# Altium schematic symbol library EmbedSys_Library.SchLib: 91 symbols (part 2 of 3)
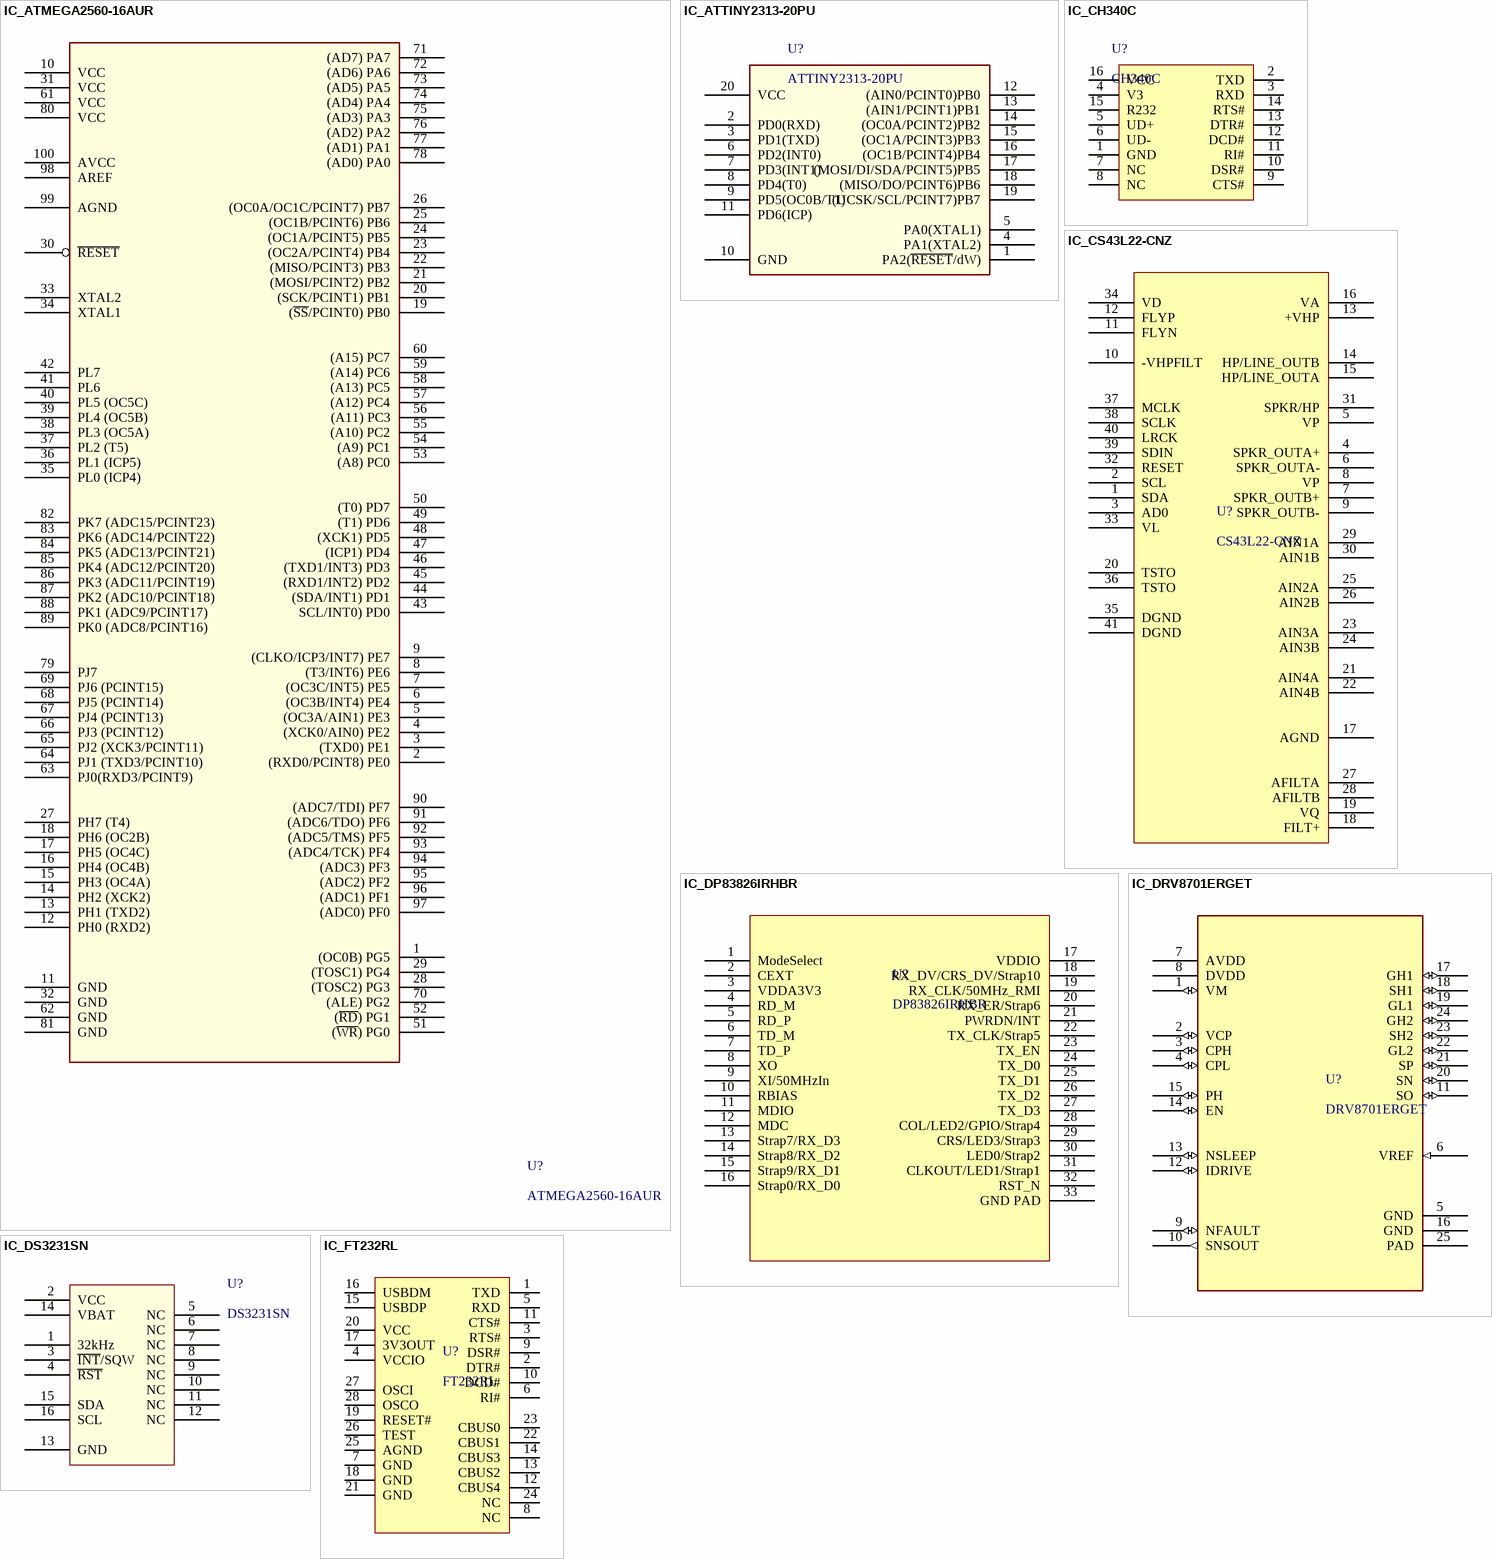
[diagram p6: symbols IC_ATMEGA2560-16AUR to IC_FT232RL]

## IC_CH340C
designator U?, comment CH340C
USB Bridge, USB to UART USB 2.0 UART Interface; Manufacturer: Olimex; Alternate Part Number-1: NA; Manufacturer Part Number: CH340C; Case/Package: SOIC16; Supplier-1: LCSC; Supplier Part Number-1: C84681
footprint SOIC16_50_284_25X90_SMT
pins: 1 GND, 2 TXD, 3 RXD, 4 V3, 5 UD+, 6 UD-, 7 NC, 8 NC, 9 CTS#, 10 DSR#, 11 RI#, 12 DCD#, 13 DTR#, 14 RTS#, 15 R232, 16 VCC

## IC_CS43L22-CNZ
designator U?, comment CS43L22-CNZ
Audio D/A Converter ICs Low Power Stereo DAC w/ClassD Spkr Driver; Manufacturer: Cirrus Logic; Number of DAC Channels: 1; Resolution: 24b; Conversion Rate: 96KS/s; Output Type: Voltage; Max Supply Voltage: 2.63V; Min Supply Voltage: 1.65V; Interface: I2C,Serial; Sampling Rate: 96000S/s; Polarity: Bipolar; Supply Type: Analog,Digital; Operating Supply Voltage: 2.5V; Number of Bits: 24; Manufacturer Part Number: CS43L22-CNZ; RoHS: Yes; Category: Digital to Analog Converters (DACs); Pricing 1: 1=5.98000, 10=5.37400, 25=5.08000, 100=4.40270, 250=4.17692, 500=3.74794, 1000=3.19500 (USD); Mount: Surface Mount; Case/Package: QFN; Number of Pins: 40; Contact Plating: Tin,Matte; Min Operating Temperature: -40°C; Max Operating Temperature: 85°C; Package Quantity: 50; Packaging: Tray; Number of Converters: 1; Output Polarity: Bipolar; Series: -; Number of Channels: 1; Length: 6mm; Width: 6mm; Height: 0.95mm; RoHS Compliant: Yes; ComponentLink1URL: https://datasheet.ciiva.com/1494/91818-1494314.pdf?src-supplier=Element14; ComponentLink1Description: https://datasheet.ciiva.com/1494/91818-1494314.pdf?src-supplier=Element14; ComponentLink2URL: https://datasheet.ciiva.com/26802/cs43l22-cnz-26802243.pdf?src-supplier=IIIC; ComponentLink2Description: https://datasheet.ciiva.com/26802/cs43l22-cnz-26802243.pdf?src-supplier=IIIC; ComponentLink3URL: https://datasheet.ciiva.com/6665/cs43l22-f2-6665692.pdf?src-supplier=Digi-Key; ComponentLink3Description: https://datasheet.ciiva.com/6665/cs43l22-f2-6665692.pdf?src-supplier=Digi-Key; ComponentLink4URL: https://datasheet.ciiva.com/3040/cs43l22-f2-3040429.pdf?src-supplier=Avnet; ComponentLink4Description: https://datasheet.ciiva.com/3040/cs43l22-f2-3040429.pdf?src-supplier=Avnet; ComponentLink5URL: https://datasheet.ciiva.com/16606/cs43l22-f2-16606863.pdf?src-supplier=Avnet+Europe; ComponentLink5Description: https://datasheet.ciiva.com/16606/cs43l22-f2-16606863.pdf?src-supplier=Avnet+Europe; Supplier 1: Digi-Key; Supplier Part Number 1: 598-1650-ND
footprint QFN40_19_284_33X9_SMD
pins: 1 SDA, 2 SCL, 3 AD0, 4 SPKR_OUTA+, 5 VP, 6 SPKR_OUTA-, 7 SPKR_OUTB+, 8 VP, 9 SPKR_OUTB-, 10 -VHPFILT, 11 FLYN, 12 FLYP, 13 +VHP, 14 HP/LINE_OUTB, 15 HP/LINE_OUTA, 16 VA, 17 AGND, 18 FILT+, 19 VQ, 20 TSTO, 21 AIN4A, 22 AIN4B, 23 AIN3A, 24 AIN3B, 25 AIN2A, 26 AIN2B, 27 AFILTA, 28 AFILTB, 29 AIN1A, 30 AIN1B, 31 SPKR/HP, 32 RESET, 33 VL, 34 VD, 35 DGND, 36 TSTO, 37 MCLK, 38 SCLK, 39 SDIN, 40 LRCK, 41 DGND

## IC_DP83826IRHBR
designator U?, comment DP83826IRHBR
Ethernet MAC Controller IEEE 802.3, 10/100 Base-T/TX PHY MII, RMII Interface 32-VQFN (5x5); Manufacturer: Texas Instruments; Supplier 1: Digi-Key; Manufacturer Part Number: DP83826IRHBR; RoHS: Yes; Pricing 1: 1=2.14000, 10=1.91900, 25=1.81000, 100=1.54210, 250=1.44796, 500=1.26696, 1000=1.14061 (USD); Supplier Part Number 1: 296-DP83826IRHBRCT-ND
footprint VQFN32_19_218_23X9_SMD
pins: 1 ModeSelect, 2 CEXT, 3 VDDA3V3, 4 RD_M, 5 RD_P, 6 TD_M, 7 TD_P, 8 XO, 9 XI/50MHzIn, 10 RBIAS, 11 MDIO, 12 MDC, 13 Strap7/RX_D3, 14 Strap8/RX_D2, 15 Strap9/RX_D1, 16 Strap0/RX_D0, 17 VDDIO, 18 RX_DV/CRS_DV/Strap10, 19 RX_CLK/50MHz_RMI, 20 RX_ER/Strap6, 21 PWRDN/INT, 22 TX_CLK/Strap5, 23 TX_EN, 24 TX_D0, 25 TX_D1, 26 TX_D2, 27 TX_D3, 28 COL/LED2/GPIO/Strap4, 29 CRS/LED3/Strap3, 30 LED0/Strap2, 31 CLKOUT/LED1/Strap1, 32 RST_N, 33 GND PAD

## IC_DRV8701ERGET
designator U?, comment DRV8701ERGET
IC MOTOR DRIVER 0V-5.5V 24VQFN; Manufacturer: Texas Instruments; Supplier 1: Digi-Key; Manufacturer Part Number: DRV8701ERGET; Category: Integrated Circuits (ICs); Pricing 1: 1=2.52000, 10=2.26100, 25=2.13320, 100=1.81750 (USD); Mount: Surface Mount; Case/Package: VQFN; ComponentLink1URL: http://www.ti.com/general/docs/lit/getliterature.tsp?genericPartNumber=DRV8701&&fileType=pdf&src-supplier=Avnet; ComponentLink1Description: http://www.ti.com/general/docs/lit/getliterature.tsp?genericPartNumber=DRV8701&&fileType=pdf&src-supplier=Avnet; ComponentLink2URL: http://www.ti.com/lit/ds/symlink/drv8701.pdf?src-supplier=Digi-Key; ComponentLink2Description: http://www.ti.com/lit/ds/symlink/drv8701.pdf?src-supplier=Digi-Key
footprint QFN50P400X400X100-25N
pins: 1 VM (io), 2 VCP (io), 3 CPH (io), 4 CPL (io), 5 GND (power), 6 VREF (in), 7 AVDD (power), 8 DVDD (power), 9 NFAULT (io), 10 SNSOUT (out), 11 SO (io), 12 IDRIVE (io), 13 NSLEEP (io), 14 EN (io), 15 PH (io), 16 GND (power), 17 GH1 (io), 18 SH1 (io), 19 GL1 (io), 20 SN (io), 21 SP (io), 22 GL2 (io), 23 SH2 (io), 24 GH2 (io), 25 PAD (power)

## IC_DS3231SN
designator U?, comment DS3231SN
MAXIM INTEGRATED PRODUCTS - DS3231SN#T&R - IC, RTC, Datum-/Zeitformat (Tag/Datum/Monat/Jahr, hh:mm:ss), I2C, 2.3V-5.5V Versorgung, SOIC-16; Max Supply Voltage: 5.5V; Min Supply Voltage: 2.3V; Interface: I2C,Serial,2-Wire; Logic Function: Clock; Date Format: YY-MM-DD-dd; Operating Supply Voltage: 3.3V; Supplier 1: Digi-Key; Manufacturer: Maxim; Manufacturer Part Number: DS3231SN#T&R; RoHS: Yes; Category: Real Time Clocks; Stock 1: 4168; Pricing 1: 1=8.82000, 10=7.96700, 25=7.59600, 100=6.59560, 250=6.29920, 500=5.74336 (USD); Mount: Surface Mount; Case/Package: SOIC; Number of Pins: 16; Contact Plating: Tin,Matte; Min Operating Temperature: -40°C; Max Operating Temperature: 85°C; Packaging: Tape and Reel; Package Quantity: 1000; Time Format: HH:MM:SS; Series: -; Radiation Hardening: No; Lead Free: Lead Free; RoHS Compliant: Yes; ComponentLink1URL: https://datasheet.ciiva.com/17307/ds3231-17307128.pdf?src-supplier=Avnet+Europe; ComponentLink1Description: https://datasheet.ciiva.com/17307/ds3231-17307128.pdf?src-supplier=Avnet+Europe; ComponentLink2URL: https://datasheet.ciiva.com/12291/ds3231-102175-12291260.pdf?src-supplier=Mouser; ComponentLink2Description: https://datasheet.ciiva.com/12291/ds3231-102175-12291260.pdf?src-supplier=Mouser; ComponentLink3URL: https://datasheet.ciiva.com/14244/ds3231-14244637.pdf?src-supplier=Avnet; ComponentLink3Description: https://datasheet.ciiva.com/14244/ds3231-14244637.pdf?src-supplier=Avnet; ComponentLink4URL: https://datasheet.ciiva.com/14244/ds3231-14244733.pdf?src-supplier=Avnet; ComponentLink4Description: https://datasheet.ciiva.com/14244/ds3231-14244733.pdf?src-supplier=Avnet; Supplier Part Number 1: DS3231SN#T&RCT-ND
footprint 16 SO
pins: 1 32kHz, 2 VCC, 3 ~{INT}/SQW, 4 ~{RST}, 5 NC, 6 NC, 7 NC, 8 NC, 9 NC, 10 NC, 11 NC, 12 NC, 13 GND, 14 VBAT, 15 SDA, 16 SCL

## IC_FT232RL
designator U?, comment FT232RL
FTDI - FT232RL-REEL - Interface Bridges, USB to UART, 1.8 V, 5.25 V, SSOP, 28 Pins, -40 °C; Supplier 1: Digi-Key; Manufacturer: FTDI; Manufacturer Part Number: FT232RL-REEL; Category: Interface ICs; Stock 1: 19371; Pricing 1: 1=4.60000, 10=4.15000, 50=3.95000, 100=3.75000, 250=3.35000, 500=2.95002, 1000=2.75001 (USD); Mount: Surface Mount; Case/Package: SSOP; ComponentLink1URL: https://datasheet.ciiva.com/34304/2161019-34304054.pdf?src-supplier=Jameco; ComponentLink1Description: https://datasheet.ciiva.com/34304/2161019-34304054.pdf?src-supplier=Jameco; ComponentLink2URL: https://datasheet.ciiva.com/4787/ds-ft232r-11534-4787658.pdf?src-supplier=Mouser; ComponentLink2Description: https://datasheet.ciiva.com/4787/ds-ft232r-11534-4787658.pdf?src-supplier=Mouser; ComponentLink3URL: https://datasheet.ciiva.com/26841/ft232rl-reel-26841080.pdf?src-supplier=IIIC; ComponentLink3Description: https://datasheet.ciiva.com/26841/ft232rl-reel-26841080.pdf?src-supplier=IIIC; ComponentLink4URL: https://datasheet.ciiva.com/1787/ds-ft232r-1787047.pdf?src-supplier=Digi-Key; ComponentLink4Description: https://datasheet.ciiva.com/1787/ds-ft232r-1787047.pdf?src-supplier=Digi-Key; ComponentLink5URL: https://datasheet.ciiva.com/1787/ds-ft232r-1787048.pdf?src-supplier=Digi-Key; ComponentLink5Description: https://datasheet.ciiva.com/1787/ds-ft232r-1787048.pdf?src-supplier=Digi-Key; ComponentLink6URL: https://datasheet.ciiva.com/1787/ds-ft232r-1787049.pdf?src-supplier=Digi-Key; ComponentLink6Description: https://datasheet.ciiva.com/1787/ds-ft232r-1787049.pdf?src-supplier=Digi-Key; ComponentLink7URL: https://datasheet.ciiva.com/15150/getdatasheetpartid-643207-15150506.pdf?src-supplier=Verical; ComponentLink7Description: https://datasheet.ciiva.com/15150/getdatasheetpartid-643207-15150506.pdf?src-supplier=Verical; ComponentLink8URL: https://datasheet.ciiva.com/16200/ds-ft232r-16200652.pdf?src-supplier=Future+Electronics; ComponentLink8Description: https://datasheet.ciiva.com/16200/ds-ft232r-16200652.pdf?src-supplier=Future+Electronics; Supplier Part Number 1: 768-1007-1-ND
footprint TSSOP28_25.5_295_15X58_SMD (Footprint not found)
pins: 1 TXD, 2 DTR#, 3 RTS#, 4 VCCIO, 5 RXD, 6 RI#, 7 GND, 8 NC, 9 DSR#, 10 DCD#, 11 CTS#, 12 CBUS4, 13 CBUS2, 14 CBUS3, 15 USBDP, 16 USBDM, 17 3V3OUT, 18 GND, 19 RESET#, 20 VCC, 21 GND, 22 CBUS1, 23 CBUS0, 24 NC, 25 AGND, 26 TEST, 27 OSCI, 28 OSCO

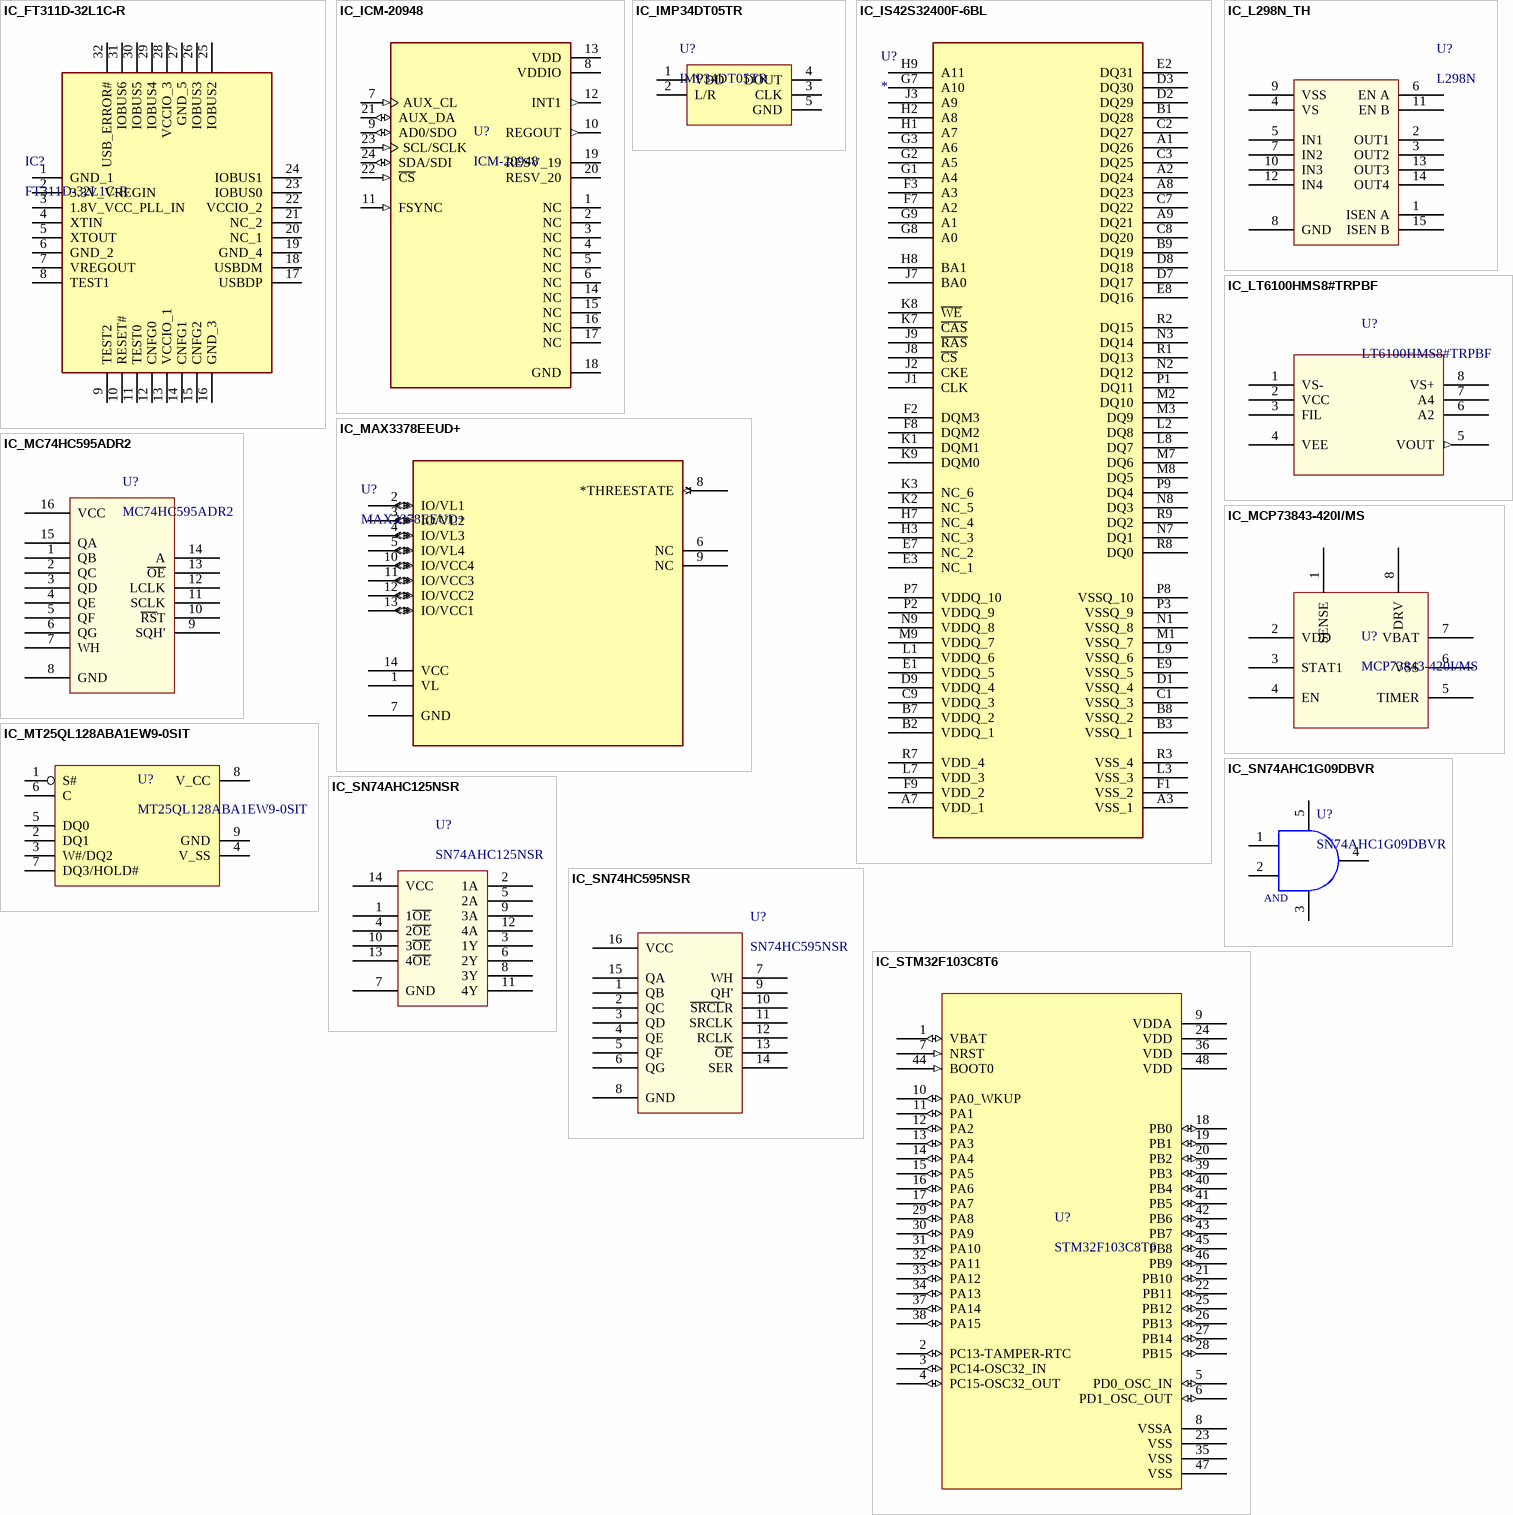
[diagram p3: symbols IC_FT311D-32L1C-R to IC_STM32F103C8T6]

## IC_FT311D-32L1C-R
designator IC?, comment FT311D-32L1C-R
IC USB ANDROID HOST CTRL LQFP-32; Manufacturer: FTDI; Data Rate: 12Mbps; Interface: I2C,USB,UART; Operating Supply Voltage: 3.3V; Operating Supply Current: 25mA; Number of Ports: 1; ESD Protection: Yes; Min Supply Voltage: 2.97V; Max Supply Voltage: 3.63V; USB Standard: USB 1.1; Supplier 1: Digi-Key; Manufacturer Part Number: FT311D-32L1C-R; RoHS: Yes; Category: USB Interface ICs; Stock 1: 726; Pricing 1: 1=4.23000, 25=3.68000, 100=3.50000, 500=3.43750 (USD); Mount: Surface Mount; Case/Package: LQFP; Number of Pins: 32; Min Operating Temperature: -40°C; Max Operating Temperature: 85°C; Package Quantity: 1; Packaging: Tape and Reel; Number of Transceivers: 1; Length: 7mm; Width: 7mm; Height: 1.4mm; REACH SVHC: No SVHC; ComponentLink1URL: https://datasheet.ciiva.com/12096/ds-ft311d-15467-12096054.pdf?src-supplier=Mouser; ComponentLink1Description: https://datasheet.ciiva.com/12096/ds-ft311d-15467-12096054.pdf?src-supplier=Mouser; ComponentLink2URL: https://datasheet.ciiva.com/6636/ds-ft311d-6636485.pdf?src-supplier=Digi-Key; ComponentLink2Description: https://datasheet.ciiva.com/6636/ds-ft311d-6636485.pdf?src-supplier=Digi-Key; ComponentLink3URL: https://datasheet.ciiva.com/6636/ds-ft311d-6636486.pdf?src-supplier=Digi-Key; ComponentLink3Description: https://datasheet.ciiva.com/6636/ds-ft311d-6636486.pdf?src-supplier=Digi-Key; ComponentLink4URL: https://datasheet.ciiva.com/6636/ds-ft311d-6636487.pdf?src-supplier=Digi-Key; ComponentLink4Description: https://datasheet.ciiva.com/6636/ds-ft311d-6636487.pdf?src-supplier=Digi-Key; ComponentLink5URL: https://datasheet.ciiva.com/22638/1682202-22638892.pdf?src-supplier=Element14; ComponentLink5Description: https://datasheet.ciiva.com/22638/1682202-22638892.pdf?src-supplier=Element14; Supplier Part Number 1: 768-1144-1-ND
footprint QFP80P900X900X160-32N
pins: 1 GND_1, 2 3.3V_VREGIN, 3 1.8V_VCC_PLL_IN, 4 XTIN, 5 XTOUT, 6 GND_2, 7 VREGOUT, 8 TEST1, 9 TEST2, 10 RESET#, 11 TEST0, 12 CNFG0, 13 VCCIO_1, 14 CNFG1, 15 CNFG2, 16 GND_3, 17 USBDP, 18 USBDM, 19 GND_4, 20 NC_1, 21 NC_2, 22 VCCIO_2, 23 IOBUS0, 24 IOBUS1, 25 IOBUS2, 26 IOBUS3, 27 GND_5, 28 VCCIO_3, 29 IOBUS4, 30 IOBUS5, 31 IOBUS6, 32 USB_ERROR#

## IC_ICM-20948
designator U?, comment ICM-20948
IMU ACCEL/GYRO/COMPI2C/SPI 24QFN; MF: TDK InvenSense; Sensor Type: Accelerometer,Gyroscope,Magnetometer; Output Type: SPI,I2C; SnapEDA_Link: https://www.snapeda.com/parts/ICM-20948/TDK%20InvenSense/view-part/5161070/?ref=snap; MP: ICM-20948; Check_prices: https://www.snapeda.com/parts/ICM-20948/TDK%20InvenSense/view-part/5161070/?ref=eda; Package: TFQFN-24 TDK InvenSense; Value: *; Purchase-URL: https://pricing.snapeda.com/search/part/ICM-20948/?ref=eda; Digi-Key_Part_Number: 1428-1123-1-ND; Supplier 1: Digi-Key; Manufacturer: TDK InvenSense; Manufacturer Part Number: ICM-20948; RoHS: Yes; Category: Inertial Measurement Units (IMUs); Pricing 1: 1=10.47000, 5=6.80000, 10=6.12000, 25=5.44000, 50=5.03200, 100=4.35200, 500=4.08000, 1000=3.80800 (USD); Mount: Surface Mount; Case/Package: QFN; Min Operating Temperature: -40°C; Max Operating Temperature: 85°C; Packaging: Tape and Reel; RoHS Compliant: Yes; ComponentLink1URL: http://www.farnell.com/datasheets/2632662.pdf?src-supplier=Farnell; ComponentLink1Description: http://www.farnell.com/datasheets/2632662.pdf?src-supplier=Farnell; ComponentLink2URL: https://www.invensense.com/wp-content/uploads/2016/06/App-Note-eMD-20x48-User-Guide.pdf?src-supplier=Avnet+Europe; ComponentLink2Description: https://www.invensense.com/wp-content/uploads/2016/06/App-Note-eMD-20x48-User-Guide.pdf?src-supplier=Avnet+Europe; ComponentLink3URL: https://www.invensense.com/wp-content/uploads/2016/06/App-Note-eMD-20x48-User-Guide.pdf?src-supplier=Digi-Key; ComponentLink3Description: https://www.invensense.com/wp-content/uploads/2016/06/App-Note-eMD-20x48-User-Guide.pdf?src-supplier=Digi-Key; ComponentLink4URL: http://www.farnell.com/datasheets/2632662.pdf?src-supplier=Element14; ComponentLink4Description: http://www.farnell.com/datasheets/2632662.pdf?src-supplier=Element14; ComponentLink5URL: https://www.invensense.com/wp-content/uploads/2016/06/App-Note-eMD-20x48-User-Guide.pdf?src-supplier=Avnet; ComponentLink5Description: https://www.invensense.com/wp-content/uploads/2016/06/App-Note-eMD-20x48-User-Guide.pdf?src-supplier=Avnet; ComponentLink6URL: https://www.invensense.com/wp-content/uploads/2016/06/App-Note-eMD-20x48-User-Guide.pdf?src-supplier=Component+Distributors+Inc.; ComponentLink6Description: https://www.invensense.com/wp-content/uploads/2016/06/App-Note-eMD-20x48-User-Guide.pdf?src-supplier=Component+Distributors+Inc.; Supplier Part Number 1: 1428-1123-1-ND
footprint QFN40P300X300X105-24N
pins: 1 NC, 2 NC, 3 NC, 4 NC, 5 NC, 6 NC, 7 AUX_CL (in), 8 VDDIO (power), 9 AD0/SDO (io), 10 REGOUT (out), 11 FSYNC (in), 12 INT1 (out), 13 VDD (power), 14 NC, 15 NC, 16 NC, 17 NC, 18 GND (power), 19 RESV_19, 20 RESV_20, 21 AUX_DA (io), 22 ~{CS} (in), 23 SCL/SCLK (in), 24 SDA/SDI (io)

## IC_IMP34DT05TR
designator U?, comment IMP34DT05TR
MEMS Microphones AUTO & INDUSTRIAL SENSORS; Manufacturer: STMicroelectronics; Alternate Part Number-1: NA; Manufacturer Part Number: IMP34DT05TR; Case/Package: HCLGA-4; Supplier-1: Mouser; Supplier Part Number-1: 511-IMP34DT05TR
footprint HCLGA-4_53_137_15X37_SMD
pins: 1 VDD, 2 L/R, 3 CLK, 4 DOUT, 5 GND

## IC_IS42S32400F-6BL
designator U?
DRAM Chip SDRAM 128Mbit 4Mx32 3.3V 90-Pin TFBGA; Manufacturer: ISSI; Manufacturer Part Number: IS42S32400F-6BL; Max Frequency: 166MHz; Data Bus Width: 32b; Memory Size: 128Mb; Memory Type: RAM,SDRAM; Interface: Parallel; Access Time: 5.4ns; Max Supply Voltage: 3.6V; Min Supply Voltage: 3V; Address Bus Width: 14b; Nominal Supply Current: 150mA; Supplier 1: Mouser; RoHS: Yes; Category: RAM; Stock 1: 81; Pricing 1: 1=5.36000, 10=4.87000, 50=4.87000, 100=4.25000, 1000=3.87000, 10000=3.87000 (USD); Mount: Surface Mount; Case/Package: TFBGA; Number of Pins: 90; Min Operating Temperature: 0°C; Max Operating Temperature: 70°C; Frequency: 166MHz; Packaging: Tray; Package Quantity: 240; Operating Supply Voltage: 3.3V; Density: 128Mb; Radiation Hardening: No; ComponentLink1URL: http://www.mouser.com/ds/2/198/42-45S32400F-258273.pdf?src-supplier=Mouser; ComponentLink1Description: http://www.mouser.com/ds/2/198/42-45S32400F-258273.pdf?src-supplier=Mouser; ComponentLink2URL: http://components.arrow.com/part/dataview/0323_03621789?src-supplier=Arrow+Europe; ComponentLink2Description: http://components.arrow.com/part/dataview/0323_03621789?src-supplier=Arrow+Europe; ComponentLink3URL: https://www.verical.com/server-webapp/html/getDatasheet?partID=571356&src-supplier=Verical; ComponentLink3Description: https://www.verical.com/server-webapp/html/getDatasheet?partID=571356&src-supplier=Verical; ComponentLink4URL: http://components.arrow.com/part/dataview/51579296S35176N1393?src-supplier=Arrow+Electronics; ComponentLink4Description: http://components.arrow.com/part/dataview/51579296S35176N1393?src-supplier=Arrow+Electronics; ComponentLink5URL: http://www.issi.com/WW/pdf/42-45S32400F.pdf?src-supplier=Digi-Key; ComponentLink5Description: http://www.issi.com/WW/pdf/42-45S32400F.pdf?src-supplier=Digi-Key; ComponentLink6URL: http://www.issi.com/pdf/42-45S32400F.pdf?src-supplier=Avnet; ComponentLink6Description: http://www.issi.com/pdf/42-45S32400F.pdf?src-supplier=Avnet; ComponentLink7URL: http://www.issi.com/WW/pdf/42-45S32400F.pdf?src-supplier=Avnet+Europe; ComponentLink7Description: http://www.issi.com/WW/pdf/42-45S32400F.pdf?src-supplier=Avnet+Europe; Supplier Part Number 1: 870-IS42S32400F-6BL
footprint BGA90C80P9X15_800X1300X120
pins: A1 DQ26, A2 DQ24, A3 VSS_1, A7 VDD_1, A8 DQ23, A9 DQ21, B1 DQ28, B2 VDDQ_1, B3 VSSQ_1, B7 VDDQ_2, B8 VSSQ_2, B9 DQ19, C1 VSSQ_3, C2 DQ27, C3 DQ25, C7 DQ22, C8 DQ20, C9 VDDQ_3, D1 VSSQ_4, D2 DQ29, D3 DQ30, D7 DQ17, D8 DQ18, D9 VDDQ_4, E1 VDDQ_5, E2 DQ31, E3 NC_1, E7 NC_2, E8 DQ16, E9 VSSQ_5, F1 VSS_2, F2 DQM3, F3 A3, F7 A2, F8 DQM2, F9 VDD_2, G1 A4, G2 A5, G3 A6, G7 A10, G8 A0, G9 A1, H1 A7, H2 A8, H3 NC_3, H7 NC_4, H8 BA1, H9 A11, J1 CLK, J2 CKE, J3 A9, J7 BA0, J8 ~{CS}, J9 ~{RAS}, K1 DQM1, K2 NC_5, K3 NC_6, K7 ~{CAS}, K8 ~{WE}, K9 DQM0, L1 VDDQ_6, L2 DQ8, L3 VSS_3, L7 VDD_3, L8 DQ7, L9 VSSQ_6, M1 VSSQ_7, M2 DQ10, M3 DQ9, M7 DQ6, M8 DQ5, M9 VDDQ_7, N1 VSSQ_8, N2 DQ12, N3 DQ14, N7 DQ1, N8 DQ3, N9 VDDQ_8, P1 DQ11, P2 VDDQ_9, P3 VSSQ_9, P7 VDDQ_10, P8 VSSQ_10, P9 DQ4, R1 DQ13, R2 DQ15, R3 VSS_4, R7 VDD_4, R8 DQ0, R9 DQ2

## IC_L298N_TH
designator U?, comment L298N
Motor / Motion / Ignition Controllers & Drivers Dual Full Bridge; Manufacturer: STMicroelectronics; Number of Outputs: 4; Output Current: 2A; Output Voltage: 46V; Operating Supply Voltage: 42V; Min Supply Voltage: 4.8V; Max Output Current: 3A; Operating Supply Current: 13mA; Quiescent Current: 500mA; Number of Drivers: 2; Motor Type: Brushed; Output Impedance: 24mR; Manufacturer Part Number: L298N; RoHS: Yes; Category: Motor Drivers; Stock 1: 13112; Pricing 1: 1=5.15000, 10=4.62700, 25=4.37400, 100=3.59650, 250=3.22712, 500=3.11046, 1000=2.58557, 2500=2.48837, 5000=2.47590 (USD); Mount: Through Hole; Number of Pins: 15; Min Operating Temperature: -25°C; Max Operating Temperature: 130°C; Packaging: Rail/Tube; Max Supply Voltage: 46V; Package Quantity: 25; Output Current per Channel: 2A; Max Collector Current: 3A; Collector Emitter Voltage (VCEO): 46V; Series: -; Length: 19.6mm; Width: 5mm; Height: 10.7mm; Radiation Hardening: No; REACH SVHC: No SVHC; Lead Free: Lead Free; RoHS Compliant: Yes; ComponentLink1URL: https://datasheet.ciiva.com/15109/getdatasheetpartid-50682-15109332.pdf?src-supplier=Verical; ComponentLink1Description: https://datasheet.ciiva.com/15109/getdatasheetpartid-50682-15109332.pdf?src-supplier=Verical; ComponentLink2URL: https://datasheet.ciiva.com/19456/245403-19456698.pdf?src-supplier=Jameco; ComponentLink2Description: https://datasheet.ciiva.com/19456/245403-19456698.pdf?src-supplier=Jameco; ComponentLink3URL: https://datasheet.ciiva.com/25626/0900766b80060c26-25626619.pdf?src-supplier=RSComponents; ComponentLink3Description: https://datasheet.ciiva.com/25626/0900766b80060c26-25626619.pdf?src-supplier=RSComponents; ComponentLink4URL: https://datasheet.ciiva.com/14150/ofl298n-647108-dat-en-14150301.pdf?src-supplier=Distrelec; ComponentLink4Description: https://datasheet.ciiva.com/14150/ofl298n-647108-dat-en-14150301.pdf?src-supplier=Distrelec; ComponentLink5URL: https://datasheet.ciiva.com/29306/156128-da-01-en-dual-bridge-driv-l298n-29306997.pdf?src-supplier=Conrad; ComponentLink5Description: https://datasheet.ciiva.com/29306/156128-da-01-en-dual-bridge-driv-l298n-29306997.pdf?src-supplier=Conrad; ComponentLink6URL: https://datasheet.ciiva.com/26880/l298n-26880153.pdf?src-supplier=IIIC; ComponentLink6Description: https://datasheet.ciiva.com/26880/l298n-26880153.pdf?src-supplier=IIIC; ComponentLink7URL: https://datasheet.ciiva.com/1608/1693054-1608165.pdf?src-supplier=Newark; ComponentLink7Description: https://datasheet.ciiva.com/1608/1693054-1608165.pdf?src-supplier=Newark; ComponentLink8URL: https://datasheet.ciiva.com/1500/1693054-1500714.pdf?src-supplier=Element14; ComponentLink8Description: https://datasheet.ciiva.com/1500/1693054-1500714.pdf?src-supplier=Element14; ComponentLink9URL: https://datasheet.ciiva.com/1501/1693054-1501547.pdf?src-supplier=Element14; ComponentLink9Description: https://datasheet.ciiva.com/1501/1693054-1501547.pdf?src-supplier=Element14; ComponentLink10URL: https://datasheet.ciiva.com/1955/cd00000240-1955436.pdf?src-supplier=Digi-Key; ComponentLink10Description: https://datasheet.ciiva.com/1955/cd00000240-1955436.pdf?src-supplier=Digi-Key; ComponentLink11URL: https://datasheet.ciiva.com/4895/cd00000240-4895919.pdf?src-supplier=Mouser; ComponentLink11Description: https://datasheet.ciiva.com/4895/cd00000240-4895919.pdf?src-supplier=Mouser; Supplier 1: Digi-Key; Supplier Part Number 1: 497-1395-5-ND
footprint Multiwatt15
pins: 1 ISEN A, 2 OUT1, 3 OUT2, 4 VS, 5 IN1, 6 EN A, 7 IN2, 8 GND, 9 VSS, 10 IN3, 11 EN B, 12 IN4, 13 OUT3, 14 OUT4, 15 ISEN B

## IC_LT6100HMS8#TRPBF
designator U?, comment LT6100HMS8#TRPBF
IC OPAMP CURR SENSE 150KHZ 8MSOP; Manufacturer: Analog Devices / Linear Technology; Number of Channels: 1; Common Mode Rejection Ratio: 105dB; Slew Rate: 0.05V/µs; Max Supply Voltage: 36V; Min Supply Voltage: 2.7V; Input Offset Voltage (Vos): 300uV; Operating Supply Current: 60uA; Output Current per Channel: 15mA; Number of Elements: 2; Supplier 1: Digi-Key; Manufacturer Part Number: LT6100HMS8#TRPBF; RoHS: Yes; Category: Amplifiers - Op Amps, Buffer, Instrumentation; Stock 1: 3301; Pricing 1: 1=4.10000, 10=3.68300, 25=3.48200, 100=3.01780, 250=2.86304, 500=2.56902, 1000=2.19000 (USD); Case/Package: MSOP; Number of Pins: 8; Min Operating Temperature: -40°C; Max Operating Temperature: 125°C; Package Quantity: 2500; -3db Bandwidth: 150kHz; Nominal Gain Bandwidth Product: 150kHz; Packaging: Tape and Reel; Number of Circuits: 1; Power Supply Rejection Ratio (PSRR): 105dB; Series: -; RoHS Compliant: Yes; ComponentLink1URL: https://datasheet.ciiva.com/1806/7918-1806447.pdf?src-supplier=Digi-Key; ComponentLink1Description: https://datasheet.ciiva.com/1806/7918-1806447.pdf?src-supplier=Digi-Key; Supplier Part Number 1: LT6100HMS8#TRPBFCT-ND
footprint 8-TSSOP, 8-MSOP
pins: 1 VS- (power), 2 VCC (power), 3 FIL, 4 VEE (power), 5 VOUT (out), 6 A2, 7 A4, 8 VS+ (power)

## IC_MAX3378EEUD+
designator U?, comment MAX3378EEUD+
MAX3378 Series 1.65 to 5.5 V 16 Mbps Low-Voltage Level Translator - TSSOP-14; Manufacturer: Maxim; SourceLibrary: Maxim_2011-10-27; Built_By: EMA_UL_Team; Vendor: Maxim Integrated Products; High Level Output Current: -20uA; Low Level Output Current: 20uA; Data Rate: 16Mbps; Number of Channels: 4; Propagation Delay: 15ns; Max Supply Voltage: 5.5V; Min Supply Voltage: 1.65V; Max Power Dissipation: 727mW; Output Type: 3-STATE; Output Current: 1mA; Turn-On Delay Time: 20ns; Operating Supply Current: 300uA; Revision: 2; Manufacturer_Part_Number: MAX3378EEUD+; Copyright: Copyright (C) 2018 Accelerated Designs. All rights reserved; RefDes: RefDes; Type: DEV; Supplier 1: Digi-Key; Manufacturer Part Number: MAX3378EEUD+; RoHS: Yes; Category: Voltage Level Shifters; Stock 1: 1639; Pricing 1: 1=4.25000, 10=3.81300, 25=3.60440, 100=3.12390, 250=2.96368, 500=2.67000 (USD); Mount: Surface Mount; Case/Package: TSSOP; Number of Pins: 14; Weight: 0.004949oz; Min Operating Temperature: -40°C; Max Operating Temperature: 85°C; Logic Function: Translator; Packaging: Rail/Tube; Number of Inputs: 4; Package Quantity: 96; Number of Bits: 4; Series: -; Length: 5.1mm; Width: 4.5mm; Height: 0.95mm; Radiation Hardening: No; RoHS Compliant: Yes; REACH SVHC: Unknown; Lead Free: Lead Free; ComponentLink1URL: https://datasheet.ciiva.com/22697/1726416-22697975.pdf?src-supplier=Element14; ComponentLink1Description: https://datasheet.ciiva.com/22697/1726416-22697975.pdf?src-supplier=Element14; ComponentLink2URL: https://datasheet.ciiva.com/23831/74665-23831847.pdf?src-supplier=Newark; ComponentLink2Description: https://datasheet.ciiva.com/23831/74665-23831847.pdf?src-supplier=Newark; ComponentLink3URL: https://datasheet.ciiva.com/26867/max3378eeud-26867717.pdf?src-supplier=IIIC; ComponentLink3Description: https://datasheet.ciiva.com/26867/max3378eeud-26867717.pdf?src-supplier=IIIC; ComponentLink4URL: https://datasheet.ciiva.com/1900/max3372e-max3393e-1900085.pdf?src-supplier=Digi-Key; ComponentLink4Description: https://datasheet.ciiva.com/1900/max3372e-max3393e-1900085.pdf?src-supplier=Digi-Key; ComponentLink5URL: https://datasheet.ciiva.com/3305/max3372e-max3393e-3305149.pdf?src-supplier=Avnet; ComponentLink5Description: https://datasheet.ciiva.com/3305/max3372e-max3393e-3305149.pdf?src-supplier=Avnet; ComponentLink6URL: https://datasheet.ciiva.com/25897/max3372e-max3393e-25897006.pdf?src-supplier=Avnet+Europe; ComponentLink6Description: https://datasheet.ciiva.com/25897/max3372e-max3393e-25897006.pdf?src-supplier=Avnet+Europe; Supplier Part Number 1: MAX3378EEUD+-ND
footprint 14TSSOP
pins: 1 VL (power), 2 IO/VL1 (io), 3 IO/VL2 (io), 4 IO/VL3 (io), 5 IO/VL4 (io), 6 NC, 7 GND (power), 8 *THREESTATE (in), 9 NC, 10 IO/VCC4 (io), 11 IO/VCC3 (io), 12 IO/VCC2 (io), 13 IO/VCC1 (io), 14 VCC (power)

## IC_MC74HC595ADR2
designator U?, comment MC74HC595ADR2
IC SHIFT REGISTR 8BIT 3ST 16SOIC; Manufacturer: ON Semiconductor; Propagation Delay: 24ns; Max Supply Voltage: 6V; Number of Elements: 1; Number of Circuits: 2; Number of Input Lines: 3; Logic Function: Shift Register; Number of Bits per Element: 8; Output Type: 3-STATE; Manufacturer Part Number: MC74HC595ADR2; RoHS: No; Category: Shift Registers; Mount: Surface Mount; Case/Package: SOIC; Number of Pins: 16; Min Operating Temperature: -55°C; Max Operating Temperature: 125°C; Packaging: Tape and Reel; Package Quantity: 1; Number of Output Lines: 3; Number of Bits: 8; Voltage: 6V; Series: 74HC; Lead Free: Contains Lead; RoHS Compliant: No; ComponentLink1URL: https://datasheet.ciiva.com/1887/mc74hc595a-d-1887894.pdf?src-supplier=Digi-Key; ComponentLink1Description: https://datasheet.ciiva.com/1887/mc74hc595a-d-1887894.pdf?src-supplier=Digi-Key; ComponentLink2URL: https://datasheet.ciiva.com/1887/mc74hc595a-d-1887895.pdf?src-supplier=Digi-Key; ComponentLink2Description: https://datasheet.ciiva.com/1887/mc74hc595a-d-1887895.pdf?src-supplier=Digi-Key; Supplier 1: Digi-Key; Supplier Part Number 1: MC74HC595ADR2OSCT-ND
footprint SOIC-16
pins: 1 QB, 2 QC, 3 QD, 4 QE, 5 QF, 6 QG, 7 WH, 8 GND, 9 SQH', 10 ~{RS}T, 11 SCLK, 12 LCLK, 13 ~{OE}, 14 A, 15 QA, 16 VCC

## IC_MCP73843-420I/MS
designator U?, comment MCP73843-420I/MS
MICROCHIP   MCP73843-420I/MS   BATT CHARGER, LI-ION, 4.2V, 8MSOP; Max Output Current: 30mA; Min Supply Voltage: 4.5V; Max Supply Voltage: 12V; Output Current: 10mA; Number of Cells: 1; Max Input Voltage: 13.5V; Operating Supply Current: 750uA; Max Charge Current: 1A; Manufacturer: Microchip; Manufacturer Part Number: MCP73843-420I/MS; RoHS: Yes; Category: Battery Management; Stock 1: 87; Pricing 1: 1=1.38000, 25=1.14400 (USD); Mount: Surface Mount; Case/Package: MSOP; Number of Pins: 8; Min Operating Temperature: -40°C; Max Operating Temperature: 85°C; Output Voltage: 4.2V; Packaging: Rail/Tube; Number of Channels: 1; Package Quantity: 100; Length: 3mm; Width: 3mm; Height: 0.85mm; Radiation Hardening: No; REACH SVHC: No SVHC; Lead Free: Lead Free; RoHS Compliant: Yes; ComponentLink1URL: https://datasheet.ciiva.com/1137/1791051-1137891.pdf?src-supplier=Element14; ComponentLink1Description: https://datasheet.ciiva.com/1137/1791051-1137891.pdf?src-supplier=Element14; ComponentLink2URL: https://datasheet.ciiva.com/1933/21823c-1933107.pdf?src-supplier=Digi-Key; ComponentLink2Description: https://datasheet.ciiva.com/1933/21823c-1933107.pdf?src-supplier=Digi-Key; ComponentLink3URL: https://datasheet.ciiva.com/16358/filehandler-aspxddocname-en011929-16358662.pdf?src-supplier=Future+Electronics; ComponentLink3Description: https://datasheet.ciiva.com/16358/filehandler-aspxddocname-en011929-16358662.pdf?src-supplier=Future+Electronics; ComponentLink4URL: https://datasheet.ciiva.com/3213/21823c-3213420.pdf?src-supplier=Avnet; ComponentLink4Description: https://datasheet.ciiva.com/3213/21823c-3213420.pdf?src-supplier=Avnet; ComponentLink5URL: https://datasheet.ciiva.com/17299/21823c-17299020.pdf?src-supplier=Avnet+Europe; ComponentLink5Description: https://datasheet.ciiva.com/17299/21823c-17299020.pdf?src-supplier=Avnet+Europe; Supplier 1: Digi-Key; Supplier Part Number 1: MCP73843-420I/MS-ND
footprint MSOP8_MC_MCH
pins: 1 SENSE, 2 VDD, 3 STAT1, 4 EN, 5 TIMER, 6 VSS, 7 VBAT, 8 DRV

## IC_MT25QL128ABA1EW9-0SIT
designator U?, comment MT25QL128ABA1EW9-0SIT
IC FLASH 128M SPI 133MHZ 8WPDFN; Manufacturer: Micron Technology; Memory Type: Non-Volatile,FLASH; Memory Size: 128Mb; Supplier 1: Avnet; Manufacturer Part Number: MT25QL128ABA1EW9-0SIT; RoHS: Yes; Category: Memory; Stock 1: 27; Pricing 1: 1=1.93000 (USD); Mount: Surface Mount; Min Operating Temperature: -40°C; Max Operating Temperature: 85°C; Packaging: Tray; Frequency: 133MHz; RoHS Compliant: Yes; ComponentLink1URL: https://www.micron.com/~/media/documents/products/data-sheet/nor-flash/serial-nor/mt25q/die-rev-a/mt25q_qlhs_l_128_aba_0.pdf?src-supplier=Digi-Key; ComponentLink1Description: https://www.micron.com/~/media/documents/products/data-sheet/nor-flash/serial-nor/mt25q/die-rev-a/mt25q_qlhs_l_128_aba_0.pdf?src-supplier=Digi-Key; Supplier Part Number 1: 83AH2706
footprint SON127P800X600X80-9N-D
pins: 1 S#, 2 DQ1, 3 W#/DQ2, 4 V_SS, 5 DQ0, 6 C, 7 DQ3/HOLD#, 8 V_CC, 9 GND

## IC_SN74AHC1G09DBVR
designator U?, comment SN74AHC1G09DBVR
TEXAS INSTRUMENTS - SN74AHC1G09DBVR - AND Gate, 74AHC1G09, 2 Input, 2 V to 5.5 V, SOT-23-5; Min Supply Voltage: 2V; Max Supply Voltage: 5.5V; Quiescent Current: 1uA; Number of Inputs: 2; Propagation Delay: 7.5ns; Output Current: 25mA; Number of Circuits: 1; Low Level Output Current: 8mA; Supplier 1: Digi-Key; Manufacturer: Texas Instruments; Manufacturer Part Number: SN74AHC1G09DBVR; RoHS: Yes; Category: Logic Gates; Stock 1: 8299; Pricing 1: 1=0.36000, 10=0.27100, 25=0.23760, 100=0.15370, 250=0.12720, 500=0.10176, 1000=0.07802 (USD); Mount: Surface Mount; Case/Package: SOT-23; Number of Pins: 5; Contact Plating: Tin,Matte; Min Operating Temperature: -55°C; Max Operating Temperature: 125°C; Logic Function: AND GATE; Package Quantity: 3000; Packaging: Tape and Reel; Number of Gates: 1; Number of Elements: 1; Number of Bits: 1; Series: 74AHC; Technology: CMOS; Output Voltage: 5.5V; Number of Outputs: 1; Radiation Hardening: No; REACH SVHC: No SVHC; Lead Free: Lead Free; RoHS Compliant: Yes; ComponentLink1URL: https://datasheet.ciiva.com/1864/sn74ahc1g09-1864410.pdf?src-supplier=Digi-Key; ComponentLink1Description: https://datasheet.ciiva.com/1864/sn74ahc1g09-1864410.pdf?src-supplier=Digi-Key; ComponentLink2URL: https://datasheet.ciiva.com/1864/sn74ahc1g09-1864411.pdf?src-supplier=Digi-Key; ComponentLink2Description: https://datasheet.ciiva.com/1864/sn74ahc1g09-1864411.pdf?src-supplier=Digi-Key; ComponentLink3URL: https://datasheet.ciiva.com/1864/sn74ahc1g09-1864412.pdf?src-supplier=Digi-Key; ComponentLink3Description: https://datasheet.ciiva.com/1864/sn74ahc1g09-1864412.pdf?src-supplier=Digi-Key; Supplier Part Number 1: 296-29202-1-ND
footprint DBV_SOP_23_5
pins: 1, 2, 3, 4, 5
text: AND

## IC_SN74AHC125NSR
designator U?, comment SN74AHC125NSR
Buffer/Line Driver 4-CH Non-Inverting 3-ST CMOS 14-Pin SOP T/R; Manufacturer: Texas Instruments; Number of Elements: 4; Max Supply Voltage: 5.5V; Min Supply Voltage: 2V; Propagation Delay: 7.5ns; Logic Function: Buffer,Inverting; Number of Bits per Element: 1; High Level Output Current: -8mA; Low Level Output Current: 8mA; Turn-On Delay Time: 15ns; Quiescent Current: 4uA; Output Type: 3-STATE; Manufacturer Part Number: SN74AHC125NSR; RoHS: Yes; Category: Buffers, Drivers and Transceivers; Stock 1: 3905; Pricing 1: 1=0.43000, 10=0.36600, 25=0.34120, 100=0.27310, 250=0.25356, 500=0.21454, 1000=0.16578 (USD); Mount: Surface Mount; Case/Package: SO; Number of Pins: 14; Min Operating Temperature: -40°C; Max Operating Temperature: 125°C; Package Quantity: 2000; Packaging: Tape and Reel; Number of Channels: 4; Number of Inputs: 4; Number of Outputs: 4; Number of Input Lines: 4; Number of Output Lines: 4; Polarity: Non-Inverting; Number of Bits: 4; Series: 74AHC; Technology: CMOS; Lead Free: Lead Free; RoHS Compliant: Yes; ComponentLink1URL: https://datasheet.ciiva.com/6623/sn74ahc125-6623637.pdf?src-supplier=Digi-Key; ComponentLink1Description: https://datasheet.ciiva.com/6623/sn74ahc125-6623637.pdf?src-supplier=Digi-Key; Supplier 1: Digi-Key; Supplier Part Number 1: 296-31733-1-ND
footprint 14-SOIC_5.3MM
pins: 1 1~{OE}, 2 1A, 3 1Y, 4 2~{OE}, 5 2A, 6 2Y, 7 GND, 8 3Y, 9 3A, 10 3~{OE}, 11 4Y, 12 4A, 13 4~{OE}, 14 VCC

## IC_SN74HC595NSR
designator U?, comment SN74HC595NSR
Shift Register Single 8-Bit Serial to Serial/Parallel 16-Pin SOP T/R; Manufacturer: Texas Instruments; Number of Elements: 1; Min Supply Voltage: 2V; Max Supply Voltage: 6V; Operating Supply Voltage: 5V; Propagation Delay: 34ns; Direction: Unidirectional; Number of Output Lines: 9; Number of Bits per Element: 8; Turn-On Delay Time: 250ns; Quiescent Current: 8uA; Output Type: 3-STATE; Manufacturer Part Number: SN74HC595NSR; RoHS: Yes; Category: Shift Registers; Stock 1: 3063; Pricing 1: 1=0.60000, 10=0.51700, 25=0.48240, 100=0.38580, 250=0.35828, 500=0.30316, 1000=0.23426 (USD); Mount: Surface Mount; Case/Package: SOP; Number of Pins: 16; Weight: 0.007079oz; Contact Plating: Gold; Min Operating Temperature: -40°C; Max Operating Temperature: 85°C; Packaging: Tape and Reel; Package Quantity: 2000; Logic Function: Shift Register; Number of Circuits: 1; Number of Input Lines: 1; Number of Bits: 8; Series: 74HC; Technology: CMOS; Radiation Hardening: No; REACH SVHC: No SVHC; Lead Free: Lead Free; RoHS Compliant: Yes; ComponentLink1URL: https://datasheet.ciiva.com/26807/getdatasheetpartid-39956-26807430.pdf?src-supplier=Verical; ComponentLink1Description: https://datasheet.ciiva.com/26807/getdatasheetpartid-39956-26807430.pdf?src-supplier=Verical; ComponentLink2URL: https://datasheet.ciiva.com/14296/sn74hc595-14296695.pdf?src-supplier=Avnet; ComponentLink2Description: https://datasheet.ciiva.com/14296/sn74hc595-14296695.pdf?src-supplier=Avnet; ComponentLink3URL: https://datasheet.ciiva.com/1886/sn74hc595-1886315.pdf?src-supplier=Digi-Key; ComponentLink3Description: https://datasheet.ciiva.com/1886/sn74hc595-1886315.pdf?src-supplier=Digi-Key; ComponentLink4URL: https://datasheet.ciiva.com/1886/sn74hc595-1886316.pdf?src-supplier=Digi-Key; ComponentLink4Description: https://datasheet.ciiva.com/1886/sn74hc595-1886316.pdf?src-supplier=Digi-Key; ComponentLink5URL: https://datasheet.ciiva.com/1886/sn74hc595-1886317.pdf?src-supplier=Digi-Key; ComponentLink5Description: https://datasheet.ciiva.com/1886/sn74hc595-1886317.pdf?src-supplier=Digi-Key; ComponentLink6URL: https://datasheet.ciiva.com/48704/001074736-da-01-en-ic-shift-regist-sn74hc595nsr-soic-16-tid-48704219.pdf?src-supplier=Conrad; ComponentLink6Description: https://datasheet.ciiva.com/48704/001074736-da-01-en-ic-shift-regist-sn74hc595nsr-soic-16-tid-48704219.pdf?src-supplier=Conrad; Supplier 1: Digi-Key; Supplier Part Number 1: 296-26485-1-ND
footprint SOIC16
pins: 1 QB, 2 QC, 3 QD, 4 QE, 5 QF, 6 QG, 7 WH, 8 GND, 9 QH', 10 ~{SRCL}R, 11 SRCLK, 12 RCLK, 13 ~{OE}, 14 SER, 15 QA, 16 VCC

## IC_STM32F103C8T6
designator U?, comment STM32F103C8T6
STMICROELECTRONICS - STM32F103C8T6 - ARM MCU, Motor Control, STM32 Family STM32F1 Series Microcontrollers, ARM Cortex-M3, 32bit, 72 MHz; Number of I/Os: 37; Supplier 1: Digi-Key; Manufacturer: STMicroelectronics; Manufacturer Part Number: STM32F103C8T6; Category: Microcontrollers; Pricing 1: 1=5.95000, 10=5.34300, 25=5.05120, 80=4.37763, 250=4.15316, 500=3.72664, 1000=3.27390 (USD); Case/Package: LQFP; Number of Pins: 48; ComponentLink1URL: https://datasheet.ciiva.com/15122/getdatasheetpartid-69880-15122076.pdf?src-supplier=Verical; ComponentLink1Description: https://datasheet.ciiva.com/15122/getdatasheetpartid-69880-15122076.pdf?src-supplier=Verical; ComponentLink2URL: https://datasheet.ciiva.com/26816/stm32f103c8t6-26816902.pdf?src-supplier=IIIC; ComponentLink2Description: https://datasheet.ciiva.com/26816/stm32f103c8t6-26816902.pdf?src-supplier=IIIC; ComponentLink3URL: https://datasheet.ciiva.com/16210/cd00161566-16210248.pdf?src-supplier=Future+Electronics; ComponentLink3Description: https://datasheet.ciiva.com/16210/cd00161566-16210248.pdf?src-supplier=Future+Electronics; ComponentLink4URL: https://datasheet.ciiva.com/14100/pustm-arm-microcont-stm32f103-en-14100508.pdf?src-supplier=Distrelec; ComponentLink4Description: https://datasheet.ciiva.com/14100/pustm-arm-microcont-stm32f103-en-14100508.pdf?src-supplier=Distrelec; ComponentLink5URL: https://datasheet.ciiva.com/8054/1730126-8054942.pdf?src-supplier=Element14; ComponentLink5Description: https://datasheet.ciiva.com/8054/1730126-8054942.pdf?src-supplier=Element14; ComponentLink6URL: https://datasheet.ciiva.com/48687/001075658-da-01-en-mcu-64kb-mem-stm32f103c8t6-lqfp-48-stm-48687589.pdf?src-supplier=Conrad; ComponentLink6Description: https://datasheet.ciiva.com/48687/001075658-da-01-en-mcu-64kb-mem-stm32f103c8t6-lqfp-48-stm-48687589.pdf?src-supplier=Conrad
footprint LQFP-48_SMD
pins: 1 VBAT (io), 2 PC13-TAMPER-RTC (io), 3 PC14-OSC32_IN (io), 4 PC15-OSC32_OUT (io), 5 PD0_OSC_IN (io), 6 PD1_OSC_OUT (io), 7 NRST (in), 8 VSSA (power), 9 VDDA (power), 10 PA0_WKUP (io), 11 PA1 (io), 12 PA2 (io), 13 PA3 (io), 14 PA4 (io), 15 PA5 (io), 16 PA6 (io), 17 PA7 (io), 18 PB0 (io), 19 PB1 (io), 20 PB2 (io), 21 PB10 (io), 22 PB11 (io), 23 VSS (power), 24 VDD (power), 25 PB12 (io), 26 PB13 (io), 27 PB14 (io), 28 PB15 (io), 29 PA8 (io), 30 PA9 (io), 31 PA10 (io), 32 PA11 (io), 33 PA12 (io), 34 PA13 (io), 35 VSS (power), 36 VDD (power), 37 PA14 (io), 38 PA15 (io), 39 PB3 (io), 40 PB4 (io), 41 PB5 (io), 42 PB6 (io), 43 PB7 (io), 44 BOOT0 (in), 45 PB8 (io), 46 PB9 (io), 47 VSS (power), 48 VDD (power)

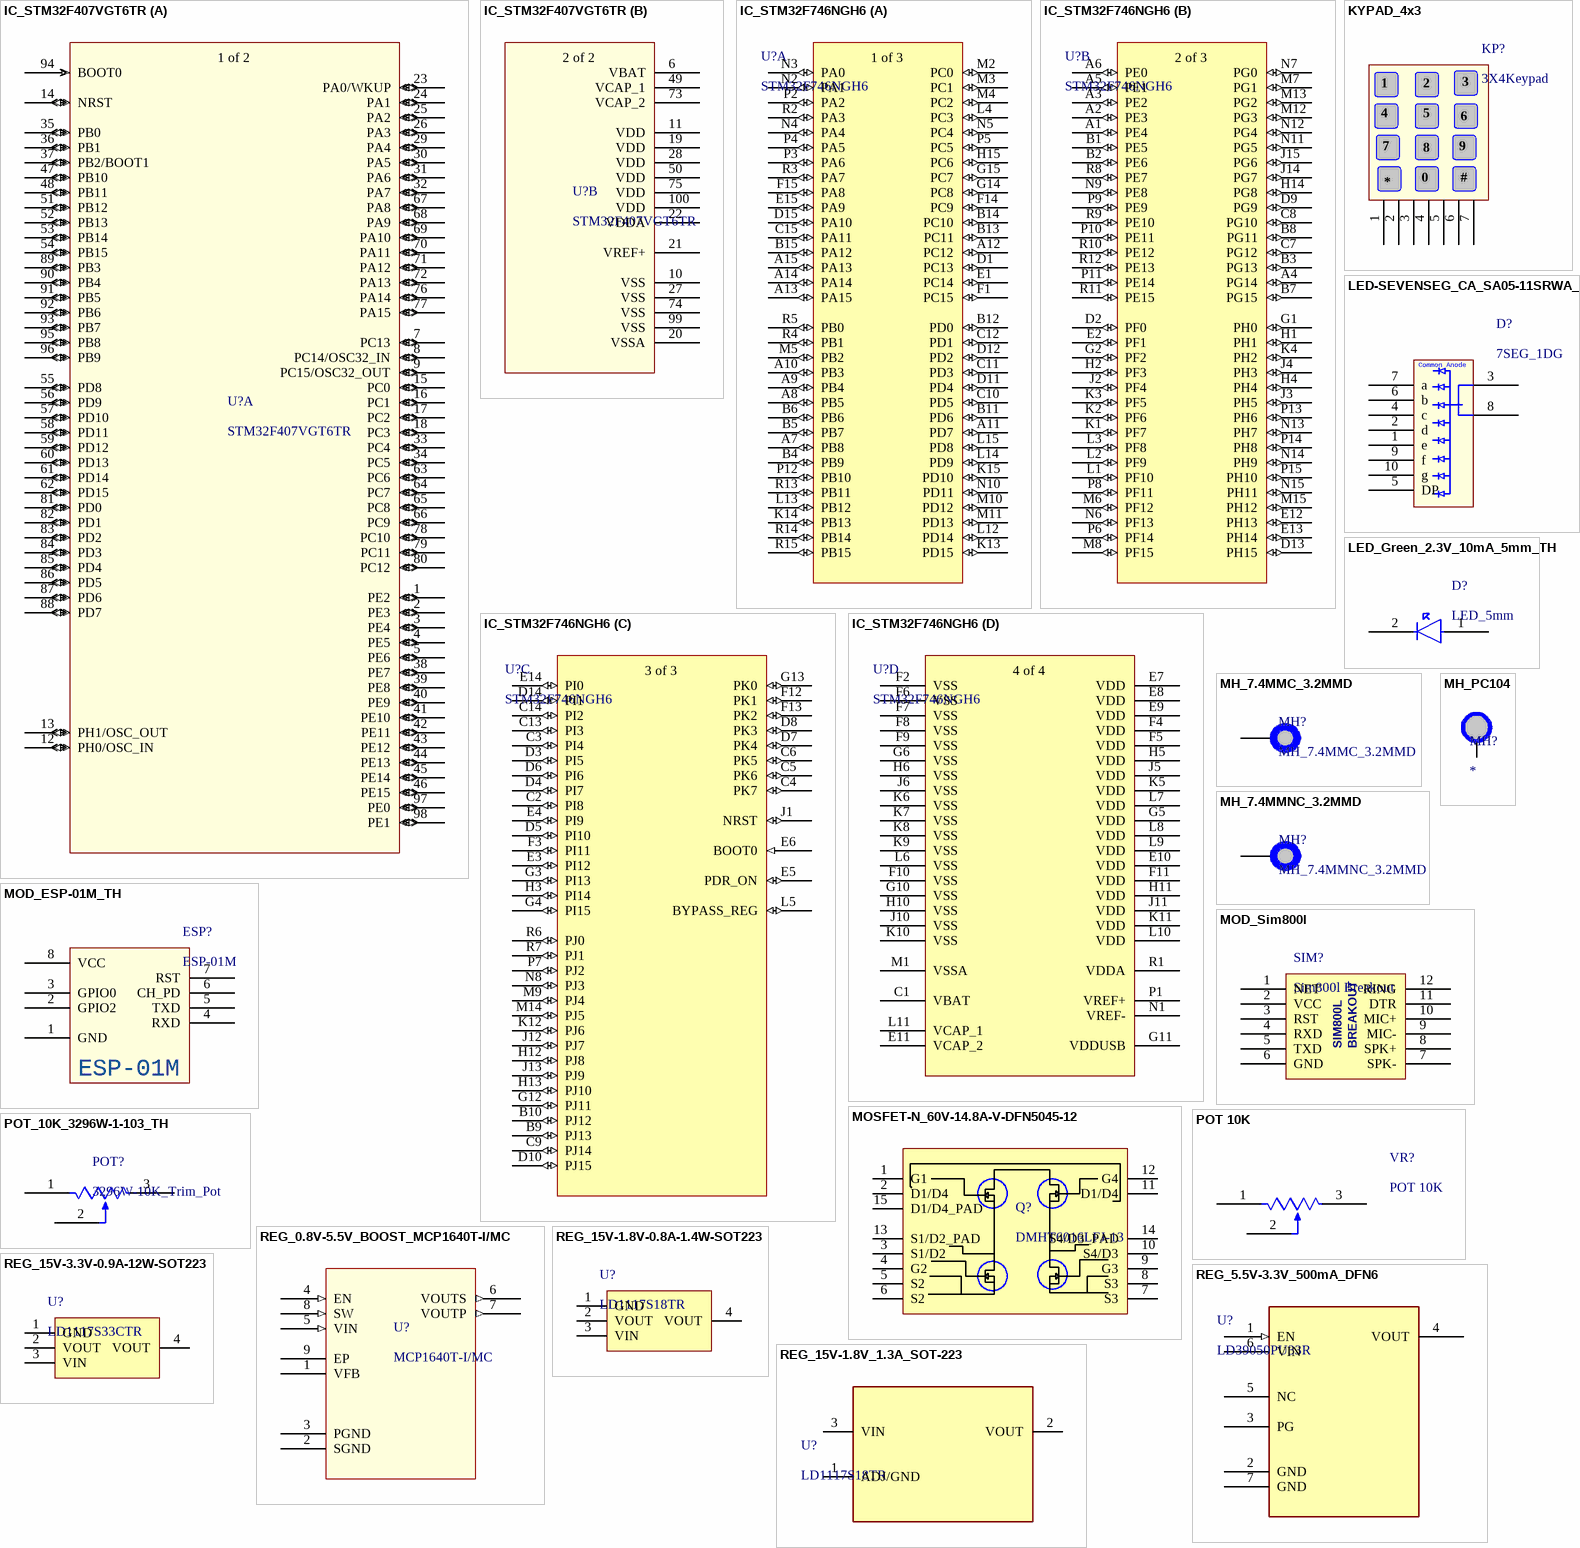
[diagram p4: symbols IC_STM32F407VGT6TR to REG_15V-3.3V-0.9A-12W-SOT223]

## IC_STM32F407VGT6TR
designator U?, comment STM32F407VGT6TR
STM32F Series 1 MB Flash 192 kB RAM ARM Based 32-Bit Microcontroller - LQFP-100; Manufacturer: STMicroelectronics; Number of I/Os: 82; Supplier 1: Digi-Key; Manufacturer Part Number: STM32F407VGT6TR; Category: Microcontrollers; Pricing 1: 1=13.51000, 10=12.41300, 25=11.89840, 100=10.48360, 250=9.96904, 500=9.37948 (USD); Case/Package: LQFP; Number of Pins: 100; Packaging: Tape and Reel; ComponentLink1URL: https://datasheet.ciiva.com/46384/1719442-46384038.pdf?src-supplier=Element14; ComponentLink1Description: https://datasheet.ciiva.com/46384/1719442-46384038.pdf?src-supplier=Element14; ComponentLink2URL: https://datasheet.ciiva.com/29719/dm00037051-29719319.pdf?src-supplier=Digi-Key; ComponentLink2Description: https://datasheet.ciiva.com/29719/dm00037051-29719319.pdf?src-supplier=Digi-Key; ComponentLink3URL: https://datasheet.ciiva.com/22692/1719442-22692042.pdf?src-supplier=Element14; ComponentLink3Description: https://datasheet.ciiva.com/22692/1719442-22692042.pdf?src-supplier=Element14; ComponentLink4URL: https://datasheet.ciiva.com/12270/dm00037051-492832-12270799.pdf?src-supplier=Mouser; ComponentLink4Description: https://datasheet.ciiva.com/12270/dm00037051-492832-12270799.pdf?src-supplier=Mouser; Supplier Part Number 1: 497-17437-6-ND
footprint QFN100_19.6_669_58X10_SMD
part A pins: 1 PE2 (io), 2 PE3 (io), 3 PE4 (io), 4 PE5 (io), 5 PE6 (io), 7 PC13 (io), 8 PC14/OSC32_IN (io), 9 PC15/OSC32_OUT (io), 12 PH0/OSC_IN (io), 13 PH1/OSC_OUT (io), 14 NRST (io), 15 PC0 (io), 16 PC1 (io), 17 PC2 (io), 18 PC3 (io), 23 PA0/WKUP (io), 24 PA1 (io), 25 PA2 (io), 26 PA3 (io), 29 PA4 (io), 30 PA5 (io), 31 PA6 (io), 32 PA7 (io), 33 PC4 (io), 34 PC5 (io), 35 PB0 (io), 36 PB1 (io), 37 PB2/BOOT1 (io), 38 PE7 (io), 39 PE8 (io), 40 PE9 (io), 41 PE10 (io), 42 PE11 (io), 43 PE12 (io), 44 PE13 (io), 45 PE14 (io), 46 PE15 (io), 47 PB10 (io), 48 PB11 (io), 51 PB12 (io), 52 PB13 (io), 53 PB14 (io), 54 PB15 (io), 55 PD8 (io), 56 PD9 (io), 57 PD10 (io), 58 PD11 (io), 59 PD12 (io), 60 PD13 (io), 61 PD14 (io), 62 PD15 (io), 63 PC6 (io), 64 PC7 (io), 65 PC8 (io), 66 PC9 (io), 67 PA8 (io), 68 PA9 (io), 69 PA10 (io), 70 PA11 (io), 71 PA12 (io), 72 PA13 (io), 76 PA14 (io), 77 PA15 (io), 78 PC10 (io), 79 PC11 (io), 80 PC12 (io), 81 PD0 (io), 82 PD1 (io), 83 PD2 (io), 84 PD3 (io), 85 PD4 (io), 86 PD5 (io), 87 PD6 (io), 88 PD7 (io), 89 PB3 (io), 90 PB4 (io), 91 PB5 (io), 92 PB6 (io), 93 PB7 (io), 94 BOOT0 (in), 95 PB8 (io), 96 PB9 (io), 97 PE0 (io), 98 PE1 (io)
part B pins: 6 VBAT (power), 10 VSS (power), 11 VDD (power), 19 VDD (power), 20 VSSA (power), 21 VREF+ (power), 22 VDDA (power), 27 VSS (power), 28 VDD (power), 49 VCAP_1 (power), 50 VDD (power), 73 VCAP_2 (power), 74 VSS (power), 75 VDD (power), 99 VSS (power), 100 VDD (power)
part A text: 1 of 2
part B text: 2 of 2

## IC_STM32F746NGH6
designator U?, comment STM32F746NGH6
No Description Available; Built_By: EMA_Jessica; Vendor: STMicroelectronics; SourceLibrary: Add_to_database_2020-10-19; Copyright: Copyright (C) 2018 Accelerated Designs. All rights reserved; Manufacturer_Part_Number: STM32F746NGH6; RefDes: RefDes; Type: DEV
footprint TFBGA216_13X13
part A pins: A7 PB8 (io), A8 PB5 (io), A9 PB4 (io), A10 PB3 (io), A11 PD7 (io), A12 PC12 (io), A13 PA15 (io), A14 PA14 (io), A15 PA13 (io), B4 PB9 (io), B5 PB7 (io), B6 PB6 (io), B11 PD6 (io), B12 PD0 (io), B13 PC11 (io), B14 PC10 (io), B15 PA12 (io), C10 PD5 (io), C11 PD3 (io), C12 PD1 (io), C15 PA11 (io), D1 PC13 (io), D11 PD4 (io), D12 PD2 (io), D15 PA10 (io), E1 PC14 (io), E15 PA9 (io), F1 PC15 (io), F14 PC9 (io), F15 PA8 (io), G14 PC8 (io), G15 PC7 (io), H15 PC6 (io), K13 PD15 (io), K14 PB13 (io), K15 PD10 (io), L4 PC3 (io), L12 PD14 (io), L13 PB12 (io), L14 PD9 (io), L15 PD8 (io), M2 PC0 (io), M3 PC1 (io), M4 PC2 (io), M5 PB2 (io), M10 PD12 (io), M11 PD13 (io), N2 PA1 (io), N3 PA0 (io), N4 PA4 (io), N5 PC4 (io), N10 PD11 (io), P2 PA2 (io), P3 PA6 (io), P4 PA5 (io), P5 PC5 (io), P12 PB10 (io), R2 PA3 (io), R3 PA7 (io), R4 PB1 (io), R5 PB0 (io), R13 PB11 (io), R14 PB14 (io), R15 PB15 (io)
part B pins: A1 PE4 (io), A2 PE3 (io), A3 PE2 (io), A4 PG14 (io), A5 PE1 (io), A6 PE0 (io), B1 PE5 (io), B2 PE6 (io), B3 PG13 (io), B7 PG15 (io), B8 PG11 (io), C7 PG12 (io), C8 PG10 (io), D2 PF0 (io), D9 PG9 (io), D13 PH15 (io), E2 PF1 (io), E12 PH13 (io), E13 PH14 (io), G1 PH0 (io), G2 PF2 (io), H1 PH1 (io), H2 PF3 (io), H4 PH4 (io), H14 PG8 (io), J2 PF4 (io), J3 PH5 (io), J4 PH3 (io), J14 PG7 (io), J15 PG6 (io), K1 PF7 (io), K2 PF6 (io), K3 PF5 (io), K4 PH2 (io), L1 PF10 (io), L2 PF9 (io), L3 PF8 (io), M6 PF12 (io), M7 PG1 (io), M8 PF15 (io), M12 PG3 (io), M13 PG2 (io), M15 PH12 (io), N6 PF13 (io), N7 PG0 (io), N9 PE8 (io), N11 PG5 (io), N12 PG4 (io), N13 PH7 (io), N14 PH9 (io), N15 PH11 (io), P6 PF14 (io), P8 PF11 (io), P9 PE9 (io), P10 PE11 (io), P11 PE14 (io), P13 PH6 (io), P14 PH8 (io), P15 PH10 (io), R8 PE7 (io), R9 PE10 (io), R10 PE12 (io), R11 PE15 (io), R12 PE13 (io)
part C pins: B9 PJ13 (io), B10 PJ12 (io), C2 PI8 (io), C3 PI4 (io), C4 PK7 (io), C5 PK6 (io), C6 PK5 (io), C9 PJ14 (io), C13 PI3 (io), C14 PI2 (io), D3 PI5 (io), D4 PI7 (io), D5 PI10 (io), D6 PI6 (io), D7 PK4 (io), D8 PK3 (io), D10 PJ15 (io), D14 PI1 (io), E3 PI12 (io), E4 PI9 (io), E5 PDR_ON (io), E6 BOOT0 (in), E14 PI0 (io), F3 PI11 (io), F12 PK1 (io), F13 PK2 (io), G3 PI13 (io), G4 PI15 (io), G12 PJ11 (io), G13 PK0 (io), H3 PI14 (io), H12 PJ8 (io), H13 PJ10 (io), J1 NRST (io), J12 PJ7 (io), J13 PJ9 (io), K12 PJ6 (io), L5 BYPASS_REG (io), M9 PJ4 (io), M14 PJ5 (io), N8 PJ3 (io), P7 PJ2 (io), R6 PJ0 (io), R7 PJ1 (io)
part D pins: C1 VBAT (power), E7 VDD (power), E8 VDD (power), E9 VDD (power), E10 VDD (power), E11 VCAP_2 (power), F2 VSS (power), F4 VDD (power), F5 VDD (power), F6 VSS (power), F7 VSS (power), F8 VSS (power), F9 VSS (power), F10 VSS (power), F11 VDD (power), G5 VDD (power), G6 VSS (power), G10 VSS (power), G11 VDDUSB (power), H5 VDD (power), H6 VSS (power), H10 VSS (power), H11 VDD (power), J5 VDD (power), J6 VSS (power), J10 VSS (power), J11 VDD (power), K5 VDD (power), K6 VSS (power), K7 VSS (power), K8 VSS (power), K9 VSS (power), K10 VSS (power), K11 VDD (power), L6 VSS (power), L7 VDD (power), L8 VDD (power), L9 VDD (power), L10 VDD (power), L11 VCAP_1 (power), M1 VSSA (power), N1 VREF- (power), P1 VREF+ (power), R1 VDDA (power)
part A text: 1 of 3
part B text: 2 of 3
part C text: 3 of 3
part D text: 4 of 4

## KYPAD_4x3
designator KP?, comment 3X4Keypad
3x4 Matrix Keypad; Manufacturer: Adafruit Industries; Manufacturer Part Number: 3845; Stock 1: 43; Pricing 1: 1=6.50000 (USD); Supplier 1: Digi-Key; Supplier Part Number 1: 1528-2673-ND
footprint COM-08653
pins: 1, 2, 3, 4, 5, 6, 7
text: 8; 9; 0; #

## LED-SEVENSEG_CA_SA05-11SRWA_TH
designator D?, comment 7SEG_1DG
LED Displays & Accessories Single Red 640nm Common Anode; Manufacturer: Kingbright; Manufacturer Part Number: SA05-11SRWA; Character Height: 12.7mm; Character Width: 7.3mm; Max Power Dissipation: 75mW; Forward Current: 20mA; Forward Voltage: 1.85V; Number of Characters: 1; Luminous Intensity: 34mcd; Number of Segments: 7; Display Type: Segment; RoHS: Yes; Category: LED Displays; Stock 1: 1638; Pricing 1: 1=1.96000, 10=1.24000, 100=0.91770, 500=0.84334, 1000=0.69451, 2000=0.65979, 5000=0.64490, 10000=0.63180 (USD); Mount: Through Hole; Case/Package: DIP; Number of Pins: 10; Color: Red; Min Operating Temperature: -40°C; Max Operating Temperature: 85°C; Package Quantity: 40; Element Configuration: Common Anode; Illumination Color: Red; Operating Supply Voltage: 1.85V; Wavelength: 640nm; Packaging: Bulk; Power Consumption: 75mW; Test Current: 20mA; Length: 0.75inch; Width: 0.5inch; Height: 0.748inch; Lead Free: Lead Free; RoHS Compliant: Yes; ComponentLink1URL: https://datasheet.ciiva.com/16484/sa05-11srwa-16484660.pdf?src-supplier=Future+Electronics; ComponentLink1Description: https://datasheet.ciiva.com/16484/sa05-11srwa-16484660.pdf?src-supplier=Future+Electronics; ComponentLink2URL: https://datasheet.ciiva.com/11771/0900766b802001c1-11771105.pdf?src-supplier=RSComponents; ComponentLink2Description: https://datasheet.ciiva.com/11771/0900766b802001c1-11771105.pdf?src-supplier=RSComponents; ComponentLink3URL: https://datasheet.ciiva.com/2104/sa05-11srwa-2104885.pdf?src-supplier=Digi-Key; ComponentLink3Description: https://datasheet.ciiva.com/2104/sa05-11srwa-2104885.pdf?src-supplier=Digi-Key; ComponentLink4URL: https://datasheet.ciiva.com/4421/sa05-11srwa-42646-4421784.pdf?src-supplier=Mouser; ComponentLink4Description: https://datasheet.ciiva.com/4421/sa05-11srwa-42646-4421784.pdf?src-supplier=Mouser; ComponentLink5URL: https://datasheet.ciiva.com/26291/sa05-11srwa-26291690.pdf?src-supplier=Digi-Key; ComponentLink5Description: https://datasheet.ciiva.com/26291/sa05-11srwa-26291690.pdf?src-supplier=Digi-Key; Supplier 1: Digi-Key; Supplier Part Number 1: 754-1677-5-ND
footprint 7SEG_1DG
pins: 1 e, 2 d, 3, 4 c, 5 DP, 6 b, 7 a, 8, 9 f, 10 g

## LED_Green_2.3V_10mA_5mm_TH
designator D?, comment LED_5mm
5MM LED; Manufacturer: Kingbright; Manufacturer Part Number: WP7113ND; Stock 1: 50; Pricing 1: 1=0.67000, 10=0.41100, 100=0.23650, 1000=0.18508, 2000=0.16966, 5000=0.15423, 10000=0.14395, 25000=0.13881 (USD); Supplier 1: Digi-Key; Supplier Part Number 1: 754-1896-ND; ComponentLink1Description: Datasheet; ComponentLink1URL: https://www.kingbrightusa.com/images/catalog/SPEC/WP7113ND.pdf
footprint LED_5mm
pins: 1, 2

## MH_7.4MMC_3.2MMD
designator MH?
Mounting Hole 7.4mm Diameter, 3.2mm Dril
footprint MH_7.4MMC_3.2MMD
pins: 1

## MH_7.4MMNC_3.2MMD
designator MH?
Mounting Hole 7.4mm Diameter (Non Copper), 3.2mm Dril NPTH
footprint MH_7.4MM_3.2MMD_NON_COPPER_NPTH
pins: 1

## MH_PC104
designator MH?
Mounting hole PC104 Standard
footprint MH_PC104
pins: 1 0

## MOD_ESP-01M_TH
designator ESP?, comment ESP-01M
TXRX ESP8266 MOD WIFI TRACE ANT; Manufacturer: Seeed Studio; Manufacturer Part Number: 317060016; RoHS: No; Category: Embedded Processors and Controllers; Stock 1: 190; Pricing 1: 1=7.09000 (USD); Case/Package: Module; Weight: 0.0625lb; Length: 3.25inch; Width: 2.25inch; Height: 0.25inch; ComponentLink1URL: https://media.digikey.com/pdf/Data%20Sheets/Seeed%20Technology/317060016_Web.pdf?src-supplier=Digi-Key; ComponentLink1Description: https://media.digikey.com/pdf/Data%20Sheets/Seeed%20Technology/317060016_Web.pdf?src-supplier=Digi-Key; Supplier 1: Digi-Key; Supplier Part Number 1: 1597-1145-ND
footprint ESP-01
pins: 1 GND, 2 GPIO2, 3 GPIO0, 4 RXD, 5 TXD, 6 CH_PD, 7 RST, 8 VCC

## MOD_Sim800l
designator SIM?, comment Sim800l Breakout
Supplier1: Nerokas; ComponentLink1Description: Shop; ComponentLink1URL: https://store.nerokas.co.ke/index.php?route=product/product&product_id=1266
footprint SIM800L_BO
pins: 1 NET, 2 VCC, 3 RST, 4 RXD, 5 TXD, 6 GND, 7 SPK-, 8 SPK+, 9 MIC-, 10 MIC+, 11 DTR, 12 RING
text: SIM800L; BREAKOUT